# Altium footprint library Passives.PcbLib: 35 footprints (part 3 of 3)
Each footprint in its own frame and in the unit in brackets; x right, y up, seen from the top. Pads: shape width x height; smd on the part's side, far side on the other; paste and mask are expansions set on the pad; w line width, h text height; cw(c..) or ccw(c..) is an arc to the next point about the centre after c.
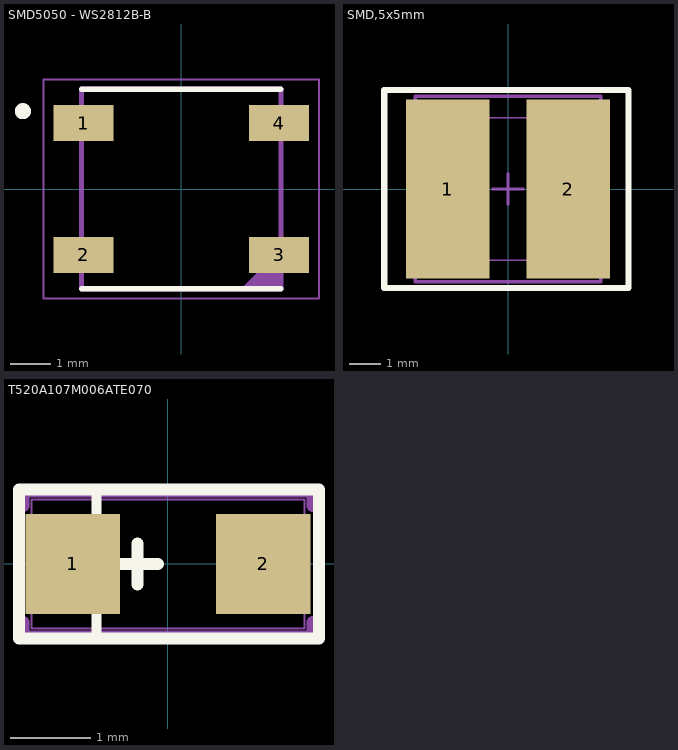
[diagram p2: the footprints below, top view; thin cyan lines are the x and y axes]

## SMD5050 - WS2812B-B [mm]
pads (4):
  rect 1.5x0.9 smd: 1(-2.45,1.65) 2(-2.45,-1.65) 3(2.45,-1.65) 4(2.45,1.65)
Top Overlay:
  circle w0.2: c-3.97,1.95 r0.1
  lines w0.127: -2.5,-2.5 2.5,-2.5 ; -2.5,2.5 2.5,2.5
Mechanical 13:
  circle w0.2: c-3.97,1.95 r0.1
  region: 2.5,-2.5 1.5,-2.5 2.5,-1.5
  lines w0.127: -2.5,-2.5 2.5,-2.5 2.5,2.5 -2.5,2.5 -2.5,-2.5
Mechanical 15:
  lines w0.05: -3.45,-2.75 -3.45,2.75 3.45,2.75 3.45,-2.75 -3.45,-2.75
3D body "WS2812B-B--3DModel-STEP-56544.STEP": height 1.62, standoff 0, extent -2.7,-2.5 2.7,2.5

## SMD,5x5mm [mm] "MetalLions MNR5020T2R2MT Inductor"
height 3.3
pads (2):
  rect 2.7x5.8 smd: 1(-1.95,0) 2(1.95,0)
Top Overlay:
  lines w0.2: -4,-3.2 3.9,-3.2 3.9,3.2 -4,3.2 -4,-3.2
Mechanical 13:
  lines w0.1: -3,-3 -3,3 3,3 3,-3 -3,-3
Mechanical 15:
  lines w0.05: -3.175,-2.3 -3.175,2.3 3.175,2.3 3.175,-2.3 -3.175,-2.3
  lines w0.1: -0.5,0 0.5,0 ; 0,-0.5 0,0.5
3D body: height 2.8, standoff 0, extent -3,-3 3,3

## T520A107M006ATE070 [mm]
pads (2):
  rect 1.177x1.249 smd paste+0 mask+0: 1(-1.188,0) 2(1.188,0)
Top Overlay:
  lines w0.127: -0.889,-0.889 -0.889,0.889
  lines w0.15: -0.635,0 -0.127,0 ; -0.381,-0.254 -0.381,0.254
  lines w0.152: -0.46,-0.927 0.46,-0.927 ; -1.854,-0.927 -1.854,0.927 -0.46,0.927 0.46,0.927 1.88,0.927 1.88,-0.927 -1.854,-0.927
Mechanical 13:
  lines w0.025: -1.7,-0.8 1.7,-0.8 1.7,0.8 -1.7,0.8 -1.7,-0.8
Mechanical 15:
  lines w0.152: -1.802,-0.726 -1.802,-0.902 1.802,-0.902 1.802,-0.726 ; -1.802,0.726 -1.802,0.902 1.802,0.902 1.802,0.726
3D body: height 0.8, standoff 0, extent -1.651,-0.672 1.626,0.672